# Altium schematic symbol library GT100N04D3.SchLib: 1 symbol
Pins are listed as number, name and electrical type; pins without a type are passive.

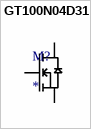
[diagram p0: symbol GT100N04D31]

## GT100N04D31
designator M?
footprint DFN3X3-8L; pin to pad 36>26 37>22 38>23+24+25
pins: 36 G, 37 D, 38 S